# Altium schematic symbol library Hub.SchLib: 1 symbol
Pins are listed as number, name and electrical type; pins without a type are passive.

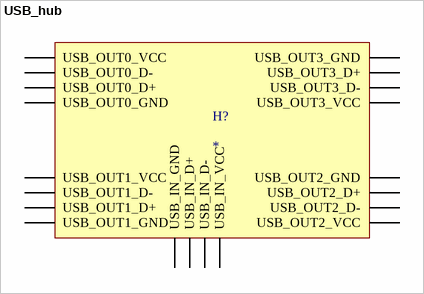
[diagram p0: symbol USB_hub]

## USB_hub
designator H?
1 to 4 USB Hub
footprint USB_hub
pins: I_G USB_IN_GND, I_N USB_IN_D-, I_P USB_IN_D+, I_V USB_IN_VCC, O0_G USB_OUT0_GND, O0_N USB_OUT0_D-, O0_P USB_OUT0_D+, O0_V USB_OUT0_VCC, O1_G USB_OUT1_GND, O1_N USB_OUT1_D-, O1_P USB_OUT1_D+, O1_V USB_OUT1_VCC, O2_G USB_OUT2_GND, O2_N USB_OUT2_D-, O2_P USB_OUT2_D+, O2_V USB_OUT2_VCC, O3_G USB_OUT3_GND, O3_N USB_OUT3_D-, O3_P USB_OUT3_D+, O3_V USB_OUT3_VCC